# Altium footprint library Package_DIP.PcbLib: 281 footprints (part 1 of 18)
Each footprint in its own frame and in the unit in brackets; x right, y up, seen from the top. Pads: shape width x height; smd on the part's side, far side on the other; paste and mask are expansions set on the pad; w line width, h text height; cw(c..) or ccw(c..) is an arc to the next point about the centre after c.
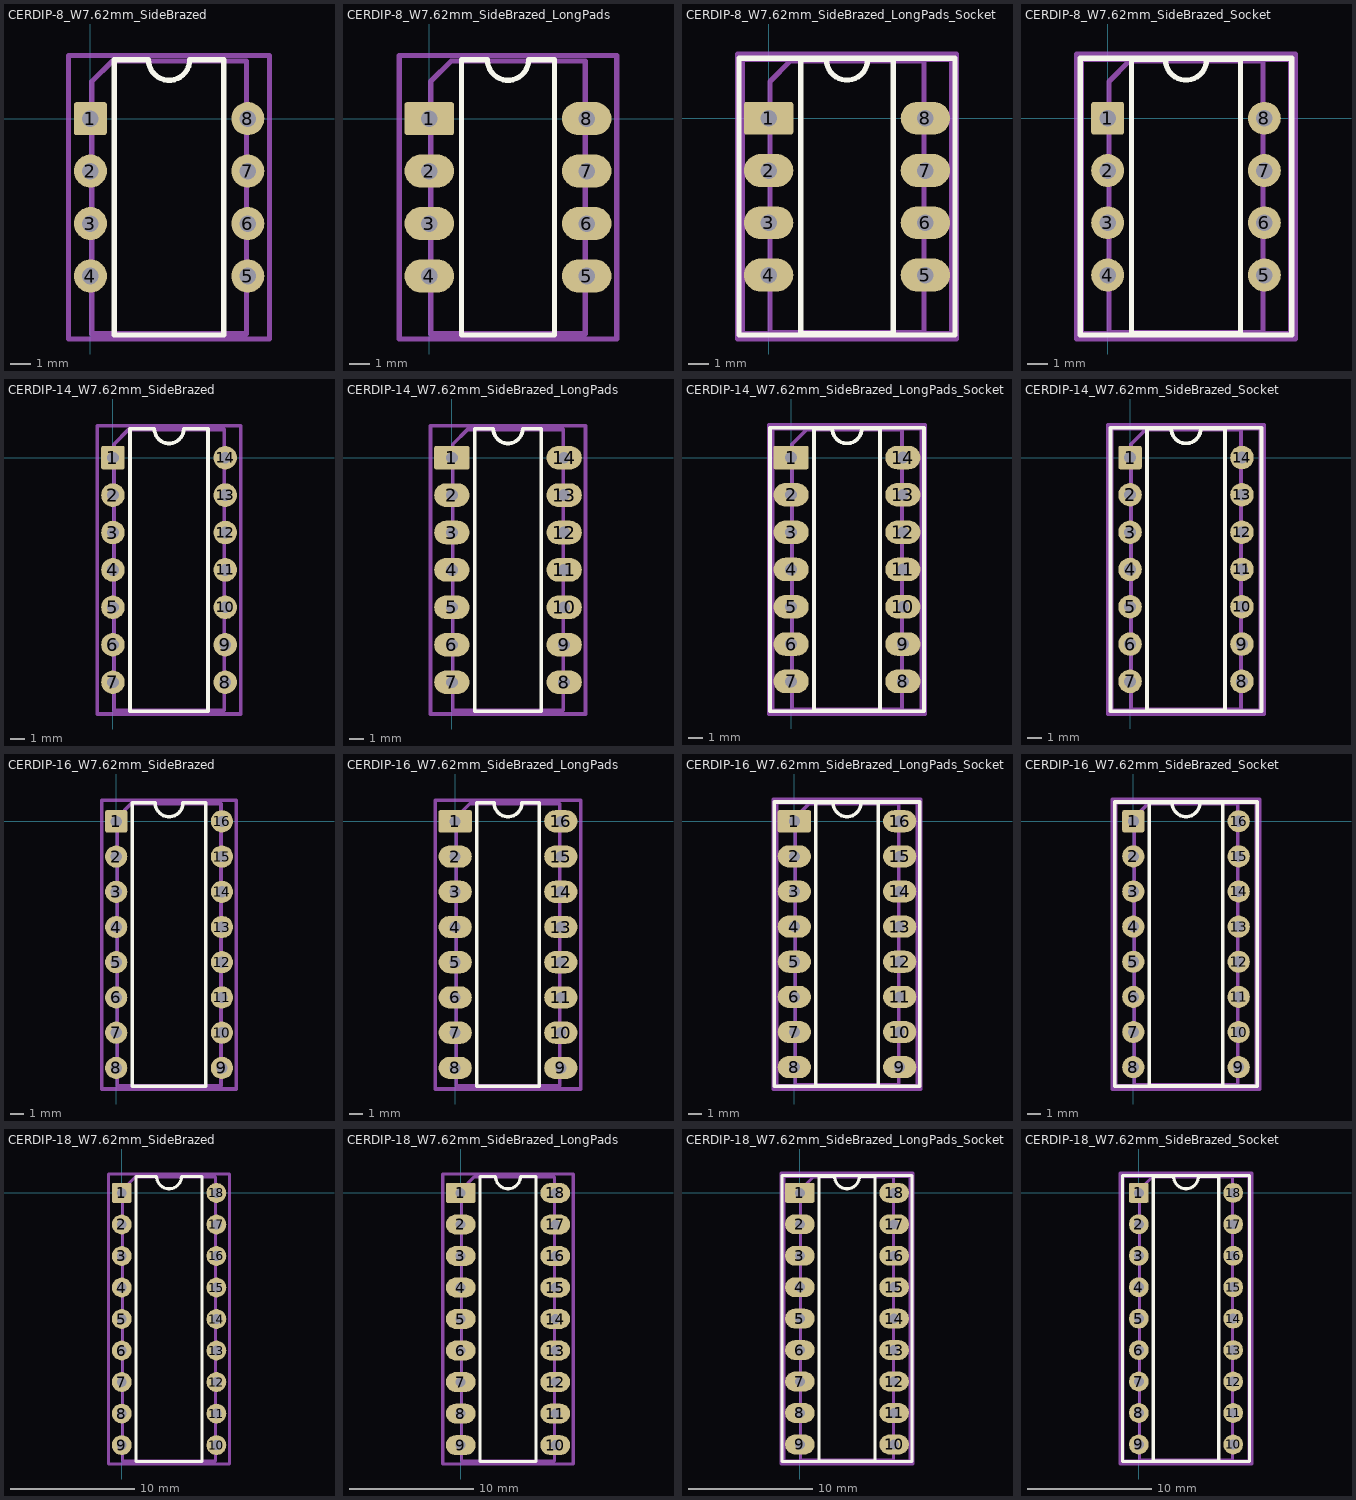
[diagram p0: the footprints below, top view; thin cyan lines are the x and y axes]

## CERDIP-8_W7.62mm_SideBrazed [mm]
pads (8):
  rrect16% 1.6x1.6 hole 0.8: 1(0,0)
  round 1.6 hole 0.8: 2(0,-2.54) 3(0,-5.08) 4(0,-7.62) 5(7.62,-7.62) 6(7.62,-5.08) 7(7.62,-2.54) 8(7.62,0)
F.SilkS:
  lines w0.254: 1.16,-10.475 6.46,-10.475 6.46,2.855 4.81,2.855 cw(c3.81,2.855) 2.81,2.855 1.16,2.855 1.16,-10.475
Top Assembly:
  lines w0.254: 0.065,-10.415 7.555,-10.415 7.555,2.795 1.065,2.795 0.065,1.795 0.065,-10.415
  text "'.Designator'" at 4.65,-7.857 h1
Top Courtyard:
  lines w0.254: -1.06,-10.67 8.67,-10.67 8.67,3.05 -1.06,3.05 -1.06,-10.67
Top Designator:
  text ".Designator" at -3.813,-4.318 h1.52

## CERDIP-8_W7.62mm_SideBrazed_LongPads [mm]
pads (8):
  rrect16% 2.4x1.6 hole 0.8: 1(0,0)
  rrect100% 2.4x1.6 hole 0.8: 2(0,-2.54) 3(0,-5.08) 4(0,-7.62) 5(7.62,-7.62) 6(7.62,-5.08) 7(7.62,-2.54) 8(7.62,0)
F.SilkS:
  lines w0.254: 1.56,-10.475 6.06,-10.475 6.06,2.855 4.81,2.855 cw(c3.81,2.855) 2.81,2.855 1.56,2.855 1.56,-10.475
Top Assembly:
  lines w0.254: 0.065,-10.415 7.555,-10.415 7.555,2.795 1.065,2.795 0.065,1.795 0.065,-10.415
  text "'.Designator'" at 4.65,-7.857 h1
Top Courtyard:
  lines w0.254: -1.45,-10.67 9.07,-10.67 9.07,3.05 -1.45,3.05 -1.45,-10.67
Top Designator:
  text ".Designator" at -3.808,-4.318 h1.52

## CERDIP-8_W7.62mm_SideBrazed_LongPads_Socket [mm]
pads (8):
  rrect16% 2.4x1.6 hole 0.8: 1(0,0)
  rrect100% 2.4x1.6 hole 0.8: 2(0,-2.54) 3(0,-5.08) 4(0,-7.62) 5(7.62,-7.62) 6(7.62,-5.08) 7(7.62,-2.54) 8(7.62,0)
F.SilkS:
  lines w0.254: -1.44,-10.535 9.06,-10.535 9.06,2.915 -1.44,2.915 -1.44,-10.535 ; 1.56,-10.475 6.06,-10.475 6.06,2.855 4.81,2.855 cw(c3.81,2.855) 2.81,2.855 1.56,2.855 1.56,-10.475
Top Assembly:
  lines w0.254: -1.27,-10.475 8.89,-10.475 8.89,2.855 -1.27,2.855 -1.27,-10.475 ; 0.065,-10.415 7.555,-10.415 7.555,2.795 1.065,2.795 0.065,1.795 0.065,-10.415
  text "'.Designator'" at 4.65,-7.857 h1
Top Courtyard:
  lines w0.254: -1.52,-10.73 9.14,-10.73 9.14,3.11 -1.52,3.11 -1.52,-10.73
Top Designator:
  text ".Designator" at -3.808,-4.318 h1.52

## CERDIP-8_W7.62mm_SideBrazed_Socket [mm]
pads (8):
  rrect16% 1.6x1.6 hole 0.8: 1(0,0)
  round 1.6 hole 0.8: 2(0,-2.54) 3(0,-5.08) 4(0,-7.62) 5(7.62,-7.62) 6(7.62,-5.08) 7(7.62,-2.54) 8(7.62,0)
F.SilkS:
  lines w0.254: -1.33,-10.535 8.95,-10.535 8.95,2.915 -1.33,2.915 -1.33,-10.535 ; 1.16,-10.475 6.46,-10.475 6.46,2.855 4.81,2.855 cw(c3.81,2.855) 2.81,2.855 1.16,2.855 1.16,-10.475
Top Assembly:
  lines w0.254: -1.27,-10.475 8.89,-10.475 8.89,2.855 -1.27,2.855 -1.27,-10.475 ; 0.065,-10.415 7.555,-10.415 7.555,2.795 1.065,2.795 0.065,1.795 0.065,-10.415
  text "'.Designator'" at 4.65,-7.857 h1
Top Courtyard:
  lines w0.254: -1.52,-10.73 9.14,-10.73 9.14,3.11 -1.52,3.11 -1.52,-10.73
Top Designator:
  text ".Designator" at -3.808,-4.318 h1.52

## CERDIP-14_W7.62mm_SideBrazed [mm]
pads (14):
  rrect16% 1.6x1.6 hole 0.8: 1(0,0)
  round 1.6 hole 0.8: 2(0,-2.54) 3(0,-5.08) 4(0,-7.62) 5(0,-10.16) 6(0,-12.7) 7(0,-15.24) 8(7.62,-15.24) 9(7.62,-12.7) 10(7.62,-10.16) 11(7.62,-7.62) 12(7.62,-5.08) 13(7.62,-2.54) 14(7.62,0)
F.SilkS:
  lines w0.254: 1.16,-17.205 6.46,-17.205 6.46,1.965 4.81,1.965 cw(c3.81,1.965) 2.81,1.965 1.16,1.965 1.16,-17.205
Top Assembly:
  lines w0.254: 0.065,-17.145 7.555,-17.145 7.555,1.905 1.065,1.905 0.065,0.905 0.065,-17.145
  text "'.Designator'" at 4.65,-11.667 h1
Top Courtyard:
  lines w0.254: -1.06,-17.4 8.67,-17.4 8.67,2.16 -1.06,2.16 -1.06,-17.4
Top Designator:
  text ".Designator" at -3.813,-8.128 h1.52

## CERDIP-14_W7.62mm_SideBrazed_LongPads [mm]
pads (14):
  rrect16% 2.4x1.6 hole 0.8: 1(0,0)
  rrect100% 2.4x1.6 hole 0.8: 2(0,-2.54) 3(0,-5.08) 4(0,-7.62) 5(0,-10.16) 6(0,-12.7) 7(0,-15.24) 8(7.62,-15.24) 9(7.62,-12.7) 10(7.62,-10.16) 11(7.62,-7.62) 12(7.62,-5.08) 13(7.62,-2.54) 14(7.62,0)
F.SilkS:
  lines w0.254: 1.56,-17.205 6.06,-17.205 6.06,1.965 4.81,1.965 cw(c3.81,1.965) 2.81,1.965 1.56,1.965 1.56,-17.205
Top Assembly:
  lines w0.254: 0.065,-17.145 7.555,-17.145 7.555,1.905 1.065,1.905 0.065,0.905 0.065,-17.145
  text "'.Designator'" at 4.65,-11.667 h1
Top Courtyard:
  lines w0.254: -1.45,-17.4 9.07,-17.4 9.07,2.16 -1.45,2.16 -1.45,-17.4
Top Designator:
  text ".Designator" at -3.808,-8.128 h1.52

## CERDIP-14_W7.62mm_SideBrazed_LongPads_Socket [mm]
pads (14):
  rrect16% 2.4x1.6 hole 0.8: 1(0,0)
  rrect100% 2.4x1.6 hole 0.8: 2(0,-2.54) 3(0,-5.08) 4(0,-7.62) 5(0,-10.16) 6(0,-12.7) 7(0,-15.24) 8(7.62,-15.24) 9(7.62,-12.7) 10(7.62,-10.16) 11(7.62,-7.62) 12(7.62,-5.08) 13(7.62,-2.54) 14(7.62,0)
F.SilkS:
  lines w0.254: -1.44,-17.265 9.06,-17.265 9.06,2.025 -1.44,2.025 -1.44,-17.265 ; 1.56,-17.205 6.06,-17.205 6.06,1.965 4.81,1.965 cw(c3.81,1.965) 2.81,1.965 1.56,1.965 1.56,-17.205
Top Assembly:
  lines w0.254: -1.27,-17.205 8.89,-17.205 8.89,1.965 -1.27,1.965 -1.27,-17.205 ; 0.065,-17.145 7.555,-17.145 7.555,1.905 1.065,1.905 0.065,0.905 0.065,-17.145
  text "'.Designator'" at 4.65,-11.667 h1
Top Courtyard:
  lines w0.254: -1.52,-17.46 9.14,-17.46 9.14,2.22 -1.52,2.22 -1.52,-17.46
Top Designator:
  text ".Designator" at -3.808,-8.128 h1.52

## CERDIP-14_W7.62mm_SideBrazed_Socket [mm]
pads (14):
  rrect16% 1.6x1.6 hole 0.8: 1(0,0)
  round 1.6 hole 0.8: 2(0,-2.54) 3(0,-5.08) 4(0,-7.62) 5(0,-10.16) 6(0,-12.7) 7(0,-15.24) 8(7.62,-15.24) 9(7.62,-12.7) 10(7.62,-10.16) 11(7.62,-7.62) 12(7.62,-5.08) 13(7.62,-2.54) 14(7.62,0)
F.SilkS:
  lines w0.254: -1.33,-17.265 8.95,-17.265 8.95,2.025 -1.33,2.025 -1.33,-17.265 ; 1.16,-17.205 6.46,-17.205 6.46,1.965 4.81,1.965 cw(c3.81,1.965) 2.81,1.965 1.16,1.965 1.16,-17.205
Top Assembly:
  lines w0.254: -1.27,-17.205 8.89,-17.205 8.89,1.965 -1.27,1.965 -1.27,-17.205 ; 0.065,-17.145 7.555,-17.145 7.555,1.905 1.065,1.905 0.065,0.905 0.065,-17.145
  text "'.Designator'" at 4.65,-11.667 h1
Top Courtyard:
  lines w0.254: -1.52,-17.46 9.14,-17.46 9.14,2.22 -1.52,2.22 -1.52,-17.46
Top Designator:
  text ".Designator" at -3.808,-8.128 h1.52

## CERDIP-16_W7.62mm_SideBrazed [mm]
pads (16):
  rrect16% 1.6x1.6 hole 0.8: 1(0,0)
  round 1.6 hole 0.8: 2(0,-2.54) 3(0,-5.08) 4(0,-7.62) 5(0,-10.16) 6(0,-12.7) 7(0,-15.24) 8(0,-17.78) 9(7.62,-17.78) 10(7.62,-15.24) 11(7.62,-12.7) 12(7.62,-10.16) 13(7.62,-7.62) 14(7.62,-5.08) 15(7.62,-2.54) 16(7.62,0)
F.SilkS:
  lines w0.254: 1.16,-19.11 6.46,-19.11 6.46,1.33 4.81,1.33 cw(c3.81,1.33) 2.81,1.33 1.16,1.33 1.16,-19.11
Top Assembly:
  lines w0.254: 0.065,-19.05 7.555,-19.05 7.555,1.27 1.065,1.27 0.065,0.27 0.065,-19.05
  text "'.Designator'" at 4.65,-12.937 h1
Top Courtyard:
  lines w0.254: -1.06,-19.3 8.67,-19.3 8.67,1.52 -1.06,1.52 -1.06,-19.3
Top Designator:
  text ".Designator" at -3.813,-9.398 h1.52

## CERDIP-16_W7.62mm_SideBrazed_LongPads [mm]
pads (16):
  rrect16% 2.4x1.6 hole 0.8: 1(0,0)
  rrect100% 2.4x1.6 hole 0.8: 2(0,-2.54) 3(0,-5.08) 4(0,-7.62) 5(0,-10.16) 6(0,-12.7) 7(0,-15.24) 8(0,-17.78) 9(7.62,-17.78) 10(7.62,-15.24) 11(7.62,-12.7) 12(7.62,-10.16) 13(7.62,-7.62) 14(7.62,-5.08) 15(7.62,-2.54) 16(7.62,0)
F.SilkS:
  lines w0.254: 1.56,-19.11 6.06,-19.11 6.06,1.33 4.81,1.33 cw(c3.81,1.33) 2.81,1.33 1.56,1.33 1.56,-19.11
Top Assembly:
  lines w0.254: 0.065,-19.05 7.555,-19.05 7.555,1.27 1.065,1.27 0.065,0.27 0.065,-19.05
  text "'.Designator'" at 4.65,-12.937 h1
Top Courtyard:
  lines w0.254: -1.45,-19.3 9.07,-19.3 9.07,1.52 -1.45,1.52 -1.45,-19.3
Top Designator:
  text ".Designator" at -3.808,-9.398 h1.52

## CERDIP-16_W7.62mm_SideBrazed_LongPads_Socket [mm]
pads (16):
  rrect16% 2.4x1.6 hole 0.8: 1(0,0)
  rrect100% 2.4x1.6 hole 0.8: 2(0,-2.54) 3(0,-5.08) 4(0,-7.62) 5(0,-10.16) 6(0,-12.7) 7(0,-15.24) 8(0,-17.78) 9(7.62,-17.78) 10(7.62,-15.24) 11(7.62,-12.7) 12(7.62,-10.16) 13(7.62,-7.62) 14(7.62,-5.08) 15(7.62,-2.54) 16(7.62,0)
F.SilkS:
  lines w0.254: -1.44,-19.17 9.06,-19.17 9.06,1.39 -1.44,1.39 -1.44,-19.17 ; 1.56,-19.11 6.06,-19.11 6.06,1.33 4.81,1.33 cw(c3.81,1.33) 2.81,1.33 1.56,1.33 1.56,-19.11
Top Assembly:
  lines w0.254: -1.27,-19.11 8.89,-19.11 8.89,1.33 -1.27,1.33 -1.27,-19.11 ; 0.065,-19.05 7.555,-19.05 7.555,1.27 1.065,1.27 0.065,0.27 0.065,-19.05
  text "'.Designator'" at 4.65,-12.937 h1
Top Courtyard:
  lines w0.254: -1.52,-19.36 9.14,-19.36 9.14,1.58 -1.52,1.58 -1.52,-19.36
Top Designator:
  text ".Designator" at -3.808,-9.398 h1.52

## CERDIP-16_W7.62mm_SideBrazed_Socket [mm]
pads (16):
  rrect16% 1.6x1.6 hole 0.8: 1(0,0)
  round 1.6 hole 0.8: 2(0,-2.54) 3(0,-5.08) 4(0,-7.62) 5(0,-10.16) 6(0,-12.7) 7(0,-15.24) 8(0,-17.78) 9(7.62,-17.78) 10(7.62,-15.24) 11(7.62,-12.7) 12(7.62,-10.16) 13(7.62,-7.62) 14(7.62,-5.08) 15(7.62,-2.54) 16(7.62,0)
F.SilkS:
  lines w0.254: -1.33,-19.17 8.95,-19.17 8.95,1.39 -1.33,1.39 -1.33,-19.17 ; 1.16,-19.11 6.46,-19.11 6.46,1.33 4.81,1.33 cw(c3.81,1.33) 2.81,1.33 1.16,1.33 1.16,-19.11
Top Assembly:
  lines w0.254: -1.27,-19.11 8.89,-19.11 8.89,1.33 -1.27,1.33 -1.27,-19.11 ; 0.065,-19.05 7.555,-19.05 7.555,1.27 1.065,1.27 0.065,0.27 0.065,-19.05
  text "'.Designator'" at 4.65,-12.937 h1
Top Courtyard:
  lines w0.254: -1.52,-19.36 9.14,-19.36 9.14,1.58 -1.52,1.58 -1.52,-19.36
Top Designator:
  text ".Designator" at -3.808,-9.398 h1.52

## CERDIP-18_W7.62mm_SideBrazed [mm]
pads (18):
  rrect16% 1.6x1.6 hole 0.8: 1(0,0)
  round 1.6 hole 0.8: 2(0,-2.54) 3(0,-5.08) 4(0,-7.62) 5(0,-10.16) 6(0,-12.7) 7(0,-15.24) 8(0,-17.78) 9(0,-20.32) 10(7.62,-20.32) 11(7.62,-17.78) 12(7.62,-15.24) 13(7.62,-12.7) 14(7.62,-10.16) 15(7.62,-7.62) 16(7.62,-5.08) 17(7.62,-2.54) 18(7.62,0)
F.SilkS:
  lines w0.254: 1.16,-21.65 6.46,-21.65 6.46,1.33 4.81,1.33 cw(c3.81,1.33) 2.81,1.33 1.16,1.33 1.16,-21.65
Top Assembly:
  lines w0.254: 0.065,-21.59 7.555,-21.59 7.555,1.27 1.065,1.27 0.065,0.27 0.065,-21.59
  text "'.Designator'" at 4.65,-14.207 h1
Top Courtyard:
  lines w0.254: -1.06,-21.84 8.67,-21.84 8.67,1.52 -1.06,1.52 -1.06,-21.84
Top Designator:
  text ".Designator" at -3.813,-10.668 h1.52

## CERDIP-18_W7.62mm_SideBrazed_LongPads [mm]
pads (18):
  rrect16% 2.4x1.6 hole 0.8: 1(0,0)
  rrect100% 2.4x1.6 hole 0.8: 2(0,-2.54) 3(0,-5.08) 4(0,-7.62) 5(0,-10.16) 6(0,-12.7) 7(0,-15.24) 8(0,-17.78) 9(0,-20.32) 10(7.62,-20.32) 11(7.62,-17.78) 12(7.62,-15.24) 13(7.62,-12.7) 14(7.62,-10.16) 15(7.62,-7.62) 16(7.62,-5.08) 17(7.62,-2.54) 18(7.62,0)
F.SilkS:
  lines w0.254: 1.56,-21.65 6.06,-21.65 6.06,1.33 4.81,1.33 cw(c3.81,1.33) 2.81,1.33 1.56,1.33 1.56,-21.65
Top Assembly:
  lines w0.254: 0.065,-21.59 7.555,-21.59 7.555,1.27 1.065,1.27 0.065,0.27 0.065,-21.59
  text "'.Designator'" at 4.65,-14.207 h1
Top Courtyard:
  lines w0.254: -1.45,-21.84 9.07,-21.84 9.07,1.52 -1.45,1.52 -1.45,-21.84
Top Designator:
  text ".Designator" at -3.808,-10.668 h1.52

## CERDIP-18_W7.62mm_SideBrazed_LongPads_Socket [mm]
pads (18):
  rrect16% 2.4x1.6 hole 0.8: 1(0,0)
  rrect100% 2.4x1.6 hole 0.8: 2(0,-2.54) 3(0,-5.08) 4(0,-7.62) 5(0,-10.16) 6(0,-12.7) 7(0,-15.24) 8(0,-17.78) 9(0,-20.32) 10(7.62,-20.32) 11(7.62,-17.78) 12(7.62,-15.24) 13(7.62,-12.7) 14(7.62,-10.16) 15(7.62,-7.62) 16(7.62,-5.08) 17(7.62,-2.54) 18(7.62,0)
F.SilkS:
  lines w0.254: -1.44,-21.71 9.06,-21.71 9.06,1.39 -1.44,1.39 -1.44,-21.71 ; 1.56,-21.65 6.06,-21.65 6.06,1.33 4.81,1.33 cw(c3.81,1.33) 2.81,1.33 1.56,1.33 1.56,-21.65
Top Assembly:
  lines w0.254: -1.27,-21.65 8.89,-21.65 8.89,1.33 -1.27,1.33 -1.27,-21.65 ; 0.065,-21.59 7.555,-21.59 7.555,1.27 1.065,1.27 0.065,0.27 0.065,-21.59
  text "'.Designator'" at 4.65,-14.207 h1
Top Courtyard:
  lines w0.254: -1.52,-21.9 9.14,-21.9 9.14,1.58 -1.52,1.58 -1.52,-21.9
Top Designator:
  text ".Designator" at -3.808,-10.668 h1.52

## CERDIP-18_W7.62mm_SideBrazed_Socket [mm]
pads (18):
  rrect16% 1.6x1.6 hole 0.8: 1(0,0)
  round 1.6 hole 0.8: 2(0,-2.54) 3(0,-5.08) 4(0,-7.62) 5(0,-10.16) 6(0,-12.7) 7(0,-15.24) 8(0,-17.78) 9(0,-20.32) 10(7.62,-20.32) 11(7.62,-17.78) 12(7.62,-15.24) 13(7.62,-12.7) 14(7.62,-10.16) 15(7.62,-7.62) 16(7.62,-5.08) 17(7.62,-2.54) 18(7.62,0)
F.SilkS:
  lines w0.254: -1.33,-21.71 8.95,-21.71 8.95,1.39 -1.33,1.39 -1.33,-21.71 ; 1.16,-21.65 6.46,-21.65 6.46,1.33 4.81,1.33 cw(c3.81,1.33) 2.81,1.33 1.16,1.33 1.16,-21.65
Top Assembly:
  lines w0.254: -1.27,-21.65 8.89,-21.65 8.89,1.33 -1.27,1.33 -1.27,-21.65 ; 0.065,-21.59 7.555,-21.59 7.555,1.27 1.065,1.27 0.065,0.27 0.065,-21.59
  text "'.Designator'" at 4.65,-14.207 h1
Top Courtyard:
  lines w0.254: -1.52,-21.9 9.14,-21.9 9.14,1.58 -1.52,1.58 -1.52,-21.9
Top Designator:
  text ".Designator" at -3.808,-10.668 h1.52